# Altium schematic symbol library LM337.Schlib: 1 symbol
Pins are listed as number, name and electrical type; pins without a type are passive.

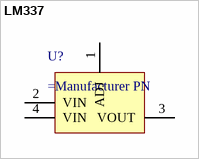
[diagram p0: symbol LM337]

## LM337
designator U?
Negative Linear Regulator
pins: 1 ADJ, 2 VIN, 3 VOUT, 4 VIN